# EAGLE library part U1200_CHIP_BUS_CONNECTOR (library u1200)
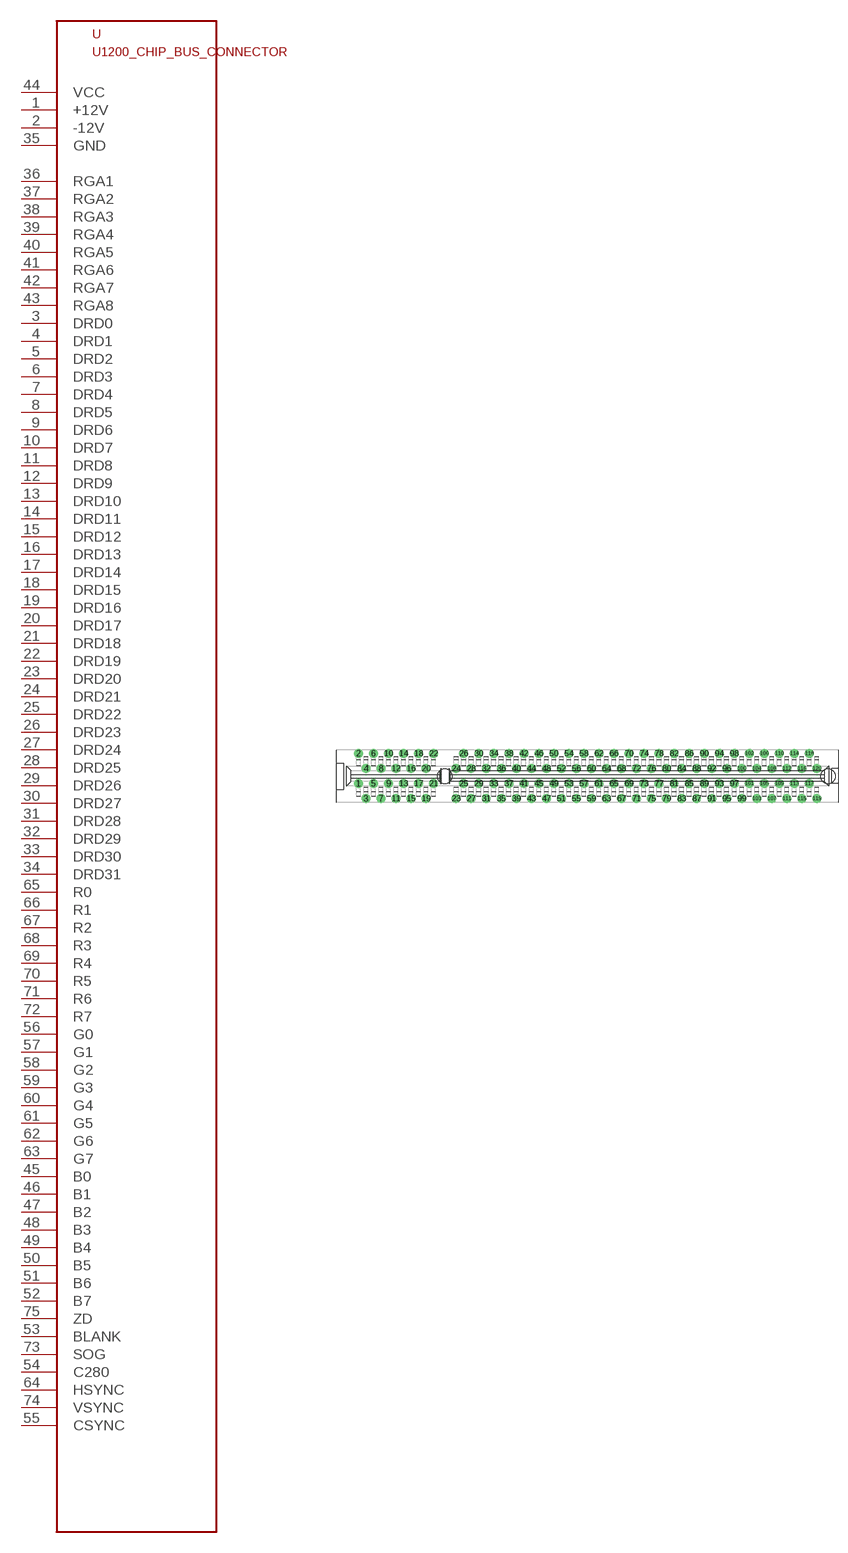
[diagram p5: symbol with the pads of 145167-2; footprint 145167-2]

Designator prefix -

## U1200_CHIP_BUS_CONNECTOR  [145167-2]
1  +12V
2  -12V
3  DRD0
4  DRD1
5  DRD2
6  DRD3
7  DRD4
8  DRD5
9  DRD6
10  DRD7
11  DRD8
12  DRD9
13  DRD10
14  DRD11
15  DRD12
16  DRD13
17  DRD14
18  DRD15
19  DRD16
20  DRD17
21  DRD18
22  DRD19
23  DRD20
24  DRD21
25  DRD22
26  DRD23
27  DRD24
28  DRD25
29  DRD26
30  DRD27
31  DRD28
32  DRD29
33  DRD30
34  DRD31
35  GND
36  RGA1
37  RGA2
38  RGA3
39  RGA4
40  RGA5
41  RGA6
42  RGA7
43  RGA8
44  VCC
45  B0
46  B1
47  B2
48  B3
49  B4
50  B5
51  B6
52  B7
53  BLANK
54  C280
55  CSYNC
56  G0
57  G1
58  G2
59  G3
60  G4
61  G5
62  G6
63  G7
64  HSYNC
65  R0
66  R1
67  R2
68  R3
69  R4
70  R5
71  R6
72  R7
73  SOG
74  VSYNC
75  ZD

## Footprint 145167-2 (pad centres in mm)
PCI Connector 60 Dual Pos. Standard Edge .050 Series PCI Source: http://catalog.tycoelectronics.com .. ENG_CD_145167_F.pdf
drill 1 pad 1.2: 1 0.254,-1.27; 2 0.254,3.81; 3 1.524,-3.81; 4 1.524,1.27; 5 2.794,-1.27; 6 2.794,3.81; 7 4.064,-3.81; 8 4.064,1.27; 9 5.334,-1.27; 10 5.334,3.81; 11 6.604,-3.81; 12 6.604,1.27; 13 7.874,-1.27; 14 7.874,3.81; 15 9.144,-3.81; 16 9.144,1.27; 17 10.414,-1.27; 18 10.414,3.81; 19 11.684,-3.81; 20 11.684,1.27; 21 12.954,-1.27; 22 12.954,3.81; 23 16.764,-3.81; 24 16.764,1.27; 25 18.034,-1.27; 26 18.034,3.81; 27 19.304,-3.81; 28 19.304,1.27; 29 20.574,-1.27; 30 20.574,3.81; 31 21.844,-3.81; 32 21.844,1.27; 33 23.114,-1.27; 34 23.114,3.81; 35 24.384,-3.81; 36 24.384,1.27; 37 25.654,-1.27; 38 25.654,3.81; 39 26.924,-3.81; 40 26.924,1.27; 41 28.194,-1.27; 42 28.194,3.81; 43 29.464,-3.81; 44 29.464,1.27; 45 30.734,-1.27; 46 30.734,3.81; 47 32.004,-3.81; 48 32.004,1.27; 49 33.274,-1.27; 50 33.274,3.81; 51 34.544,-3.81; 52 34.544,1.27; 53 35.814,-1.27; 54 35.814,3.81; 55 37.084,-3.81; 56 37.084,1.27; 57 38.354,-1.27; 58 38.354,3.81; 59 39.624,-3.81; 60 39.624,1.27; 61 40.894,-1.27; 62 40.894,3.81; 63 42.164,-3.81; 64 42.164,1.27; 65 43.434,-1.27; 66 43.434,3.81; 67 44.704,-3.81; 68 44.704,1.27; 69 45.974,-1.27; 70 45.974,3.81; 71 47.244,-3.81; 72 47.244,1.27; 73 48.514,-1.27; 74 48.514,3.81; 75 49.784,-3.81; 76 49.784,1.27; 77 51.054,-1.27; 78 51.054,3.81; 79 52.324,-3.81; 80 52.324,1.27; 81 53.594,-1.27; 82 53.594,3.81; 83 54.864,-3.81; 84 54.864,1.27; 85 56.134,-1.27; 86 56.134,3.81; 87 57.404,-3.81; 88 57.404,1.27; 89 58.674,-1.27; 90 58.674,3.81; 91 59.944,-3.81; 92 59.944,1.27; 93 61.214,-1.27; 94 61.214,3.81; 95 62.484,-3.81; 96 62.484,1.27; 97 63.754,-1.27; 98 63.754,3.81; 99 65.024,-3.81; 100 65.024,1.27; 101 66.294,-1.27; 102 66.294,3.81; 103 67.564,-3.81; 104 67.564,1.27; 105 68.834,-1.27; 106 68.834,3.81; 107 70.104,-3.81; 108 70.104,1.27; 109 71.374,-1.27; 110 71.374,3.81; 111 72.644,-3.81; 112 72.644,1.27; 113 73.914,-1.27; 114 73.914,3.81; 115 75.184,-3.81; 116 75.184,1.27; 117 76.454,-1.27; 118 76.454,3.81; 119 77.724,-3.81; 120 77.724,1.27
hole 2.44 at 14.854,0
hole 2.44 at 79.624,0